# EAGLE library part 6180XX211721_618009211721 (library Wurth_Connectors_WR-DSUB)
WR-DSUB 8.08 mm Male Angled PCB Connector w/o Hex Screw Kind Properties Quality Class:3 as per CECC 75 301-802 Gender:Male Type:Angled Insulator Material:PBT Insulator Flammability Rating:UL94 V-0 Color:Black Contact Material:Copper Alloy Contact Plating:Gold Contact Type:Stamped Shielding Material:Steel Shielding Plating:Nickel General Information Operating Temperature:-55 up to +105 °C Compliance:RoHS Electrical Properties IR1:3 A Working Voltage:125 V (AC) Withstanding Voltage:1000 V (AC) Contact Resistance:30 mΩ <https://www.we-online.com/components/media/o33075v209%20Family_WR-DSUB_6180xx211721.jpg> Details see: https://www.we-online.com/en/components/products/DSUB_MALE_ANGLED_PCB_CONNECTOR_W_O_HEX_SCREW_8_08MM_6180XX211721 Updated by Ella 2023-03-21 2023 (C) Würth Elektronik
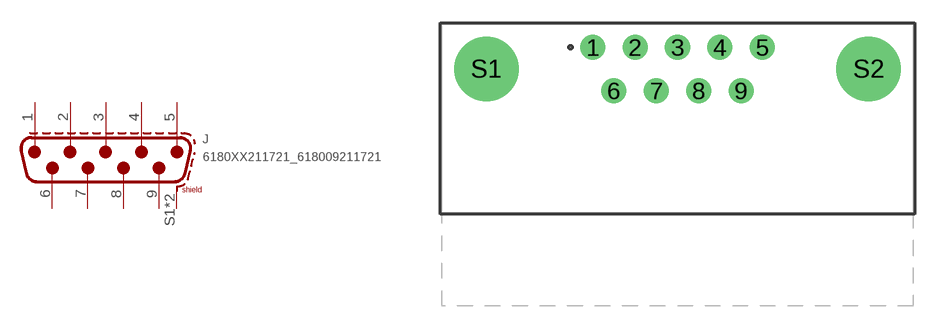
[diagram p35: symbol with the pads of 618009211721; footprint 618009211721]

Designator prefix J

## 6180XX211721_618009211721 (DATASHEET-URL: https://www.we-online.com/redexpert/spec/618009211721?ae; GENDER: Male; PART-NUMBER: 618009211721; PINS: 9; TYPE: Angled; VALUE: 618009211721; WE-NUMBER: 618009211721; WORKING-VOLTAGE: 125 V(AC))  [618009211721]
1  1
2  2
3  3
4  4
5  5
6  6
7  7
8  8
9  9
S1  SHIELD
S2  SHIELD

## Footprint 618009211721 (pad centres in mm)
WR-DSUB 8.08mm Male Angled PCB Connector without Hex Screw, 9 pins
drill 1.09: 1 -5.54,7.72; 2 -2.77,7.72; 3 0,7.72; 4 2.77,7.72; 5 5.54,7.72; 6 -4.155,4.88; 7 -1.385,4.88; 8 1.385,4.88; 9 4.155,4.88
drill 3.2: S1 -12.5,6.3; S2 12.5,6.3